# EAGLE library part LTC3127 (library PowerProducts)
LT-Spice library generated with : ltspice.ulp from: D:/Program Files (x86)/LTC/LTspiceIV/lib/sym/PowerProducts/LTC3200*.asy at 07.10.2012 17:17:07
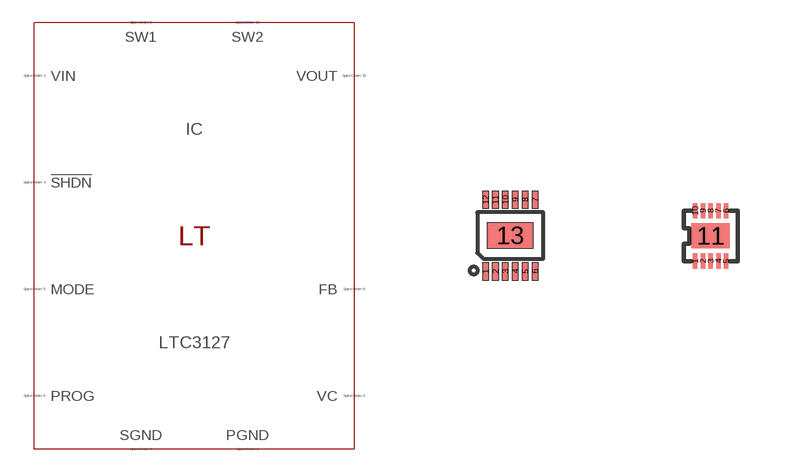
[diagram p123: symbol with the pads of MSOP12(MSE); footprints MSOP12(MSE), DFN10(DD)]

Designator prefix IC

## LTC3127MSE (SPICEMODEL: LTC3127.sub; SPICEPREFIX: X; VALUE2: LTC3127)  [MSOP12(MSE)]
1  PGND  pas
2  SW1  pas
3  VIN  pas
4  !SHDN  pas
5  MODE  pas
6  PROG  pas
7  SGND  pas
8  FB  pas
9  VC  pas
10  VOUT  pas
11  SW2  pas
12  PGND  pas
13  PGND  pas

## LTC3127 (SPICEMODEL: LTC3127.sub; SPICEPREFIX: X; VALUE2: LTC3127)  [DFN10(DD)]
1  SW1  pas
2  VIN  pas
3  !SHDN  pas
4  MODE  pas
5  PROG  pas
6  SGND  pas
7  FB  pas
8  VC  pas
9  VOUT  pas
10  SW2  pas
11  PGND  pas

## Footprint MSOP12(MSE) (pad centres in mm)
Package generated from: MSOP12(MSE).asc (!PADS-POWERPCB-V9.3-BASIC! DESIGN DATABASE ASCII FILE 1.0) with :import-pads-powerpcb-v5.ulp Version 1.0.1 at 04.10.2012 14:11:19
smd 0.165 x 0.435: 1 -0.619,-0.895; 2 -0.372,-0.895; 3 -0.124,-0.895; 4 0.124,-0.895; 5 0.372,-0.895; 6 0.619,-0.895; 7 0.619,0.895; 8 0.372,0.895; 9 0.124,0.895; 10 -0.124,0.895; 11 -0.372,0.895; 12 -0.619,0.895
smd 1.161 x 0.629: 13 0,0

## Footprint DFN10(DD) (pad centres in mm)
Package generated from: DFN10(DD).asc (!PADS-POWERPCB-V9.3-BASIC! DESIGN DATABASE ASCII FILE 1.0) with :import-pads-powerpcb-v5.ulp Version 1.0.1 at 04.10.2012 14:11:16
smd 0.116 x 0.387: 1 -0.387,-0.629; 2 -0.194,-0.629; 3 0,-0.629; 4 0.194,-0.629; 5 0.387,-0.629; 6 0.387,0.629; 7 0.194,0.629; 8 0,0.629; 9 -0.194,0.629; 10 -0.387,0.629
smd 0.968 x 0.629: 11 0,0